# EAGLE library part MCP73837-8 (library vinMCP73837-8)
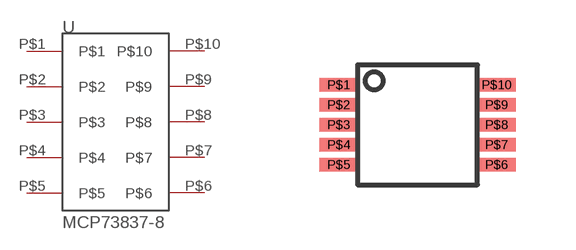
[diagram p0: symbol with the pads of MCP73837/8; footprint MCP73837/8]

Designator prefix -

## MCP73837-8  [MCP73837/8]
P$1  P$1
P$2  P$2
P$3  P$3
P$4  P$4
P$5  P$5
P$6  P$6
P$7  P$7
P$8  P$8
P$9  P$9
P$10  P$10

## Footprint MCP73837/8 (pad centres in mm)
smd 0.95 x 0.33: P$1 -2.035,0.92; P$2 -2.035,0.42; P$3 -2.035,-0.08; P$4 -2.035,-0.58; P$5 -2.035,-1.08; P$6 1.915,-1.08; P$7 1.915,-0.58; P$8 1.915,-0.08; P$9 1.915,0.42; P$10 1.915,0.92